# Altium footprint library slide_switches.PcbLib: 7 footprints
Each footprint in its own frame and in the unit in brackets; x right, y up, seen from the top. Pads: shape width x height; smd on the part's side, far side on the other; paste and mask are expansions set on the pad; w line width, h text height; cw(c..) or ccw(c..) is an arc to the next point about the centre after c.
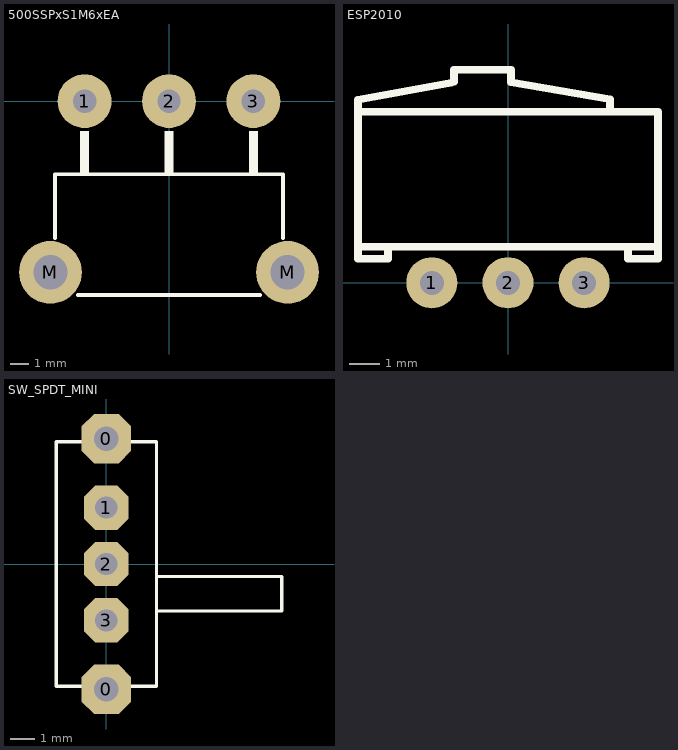
[diagram p0: the footprints below, top view; thin cyan lines are the x and y axes]

## 500SSPxS1M6xEA [mm] "E-Switch 500 Series Miniature Slide Switche (TME: Canal Electronic, SL19123)"
height 6.7
pads (5):
  round 3 hole 1.3: 1(-4.7,0) 2(0,0) 3(4.7,0)
  round 3.5 hole 1.9: M(-6.605,-9.53) M(6.605,-9.53)
Top Overlay:
  rectangle: -0.254,-4.064 0.254,-1.651
  rectangle: -4.954,-4.064 -4.446,-1.651
  rectangle: 4.446,-4.064 4.954,-1.651
  lines w0.2: -6.35,-7.62 -6.35,-4.064 6.35,-4.064 6.35,-7.62 ; -5.08,-10.795 5.08,-10.795
3D body: height 6.8, standoff -2.98, extent -6.785,-15.494 6.785,0.696

## ESP2010 [mm] "Sliding switch, right angle, SPDT"
height 2.5
pads (3):
  round 1.7 hole 0.8: 1(-2.54,0) 2(0,0) 3(2.54,0)
Top Overlay:
  lines w0.254: -4,1.2 -4,0.8 -5,0.8 -5,1.2 ; -1.894,6.665 -5,6.1 -5,5.7 ; -1.8,6.7 -1.8,7.1 0.1,7.1 0.1,7 0.1,6.7 ; 0.097,6.683 3.4,6.117 3.4,5.7 ; 4,1.2 4,0.8 5,0.8 5,1.2 ; -5,1.2 5,1.2 ; -5,1.2 -5,5.7 ; -5,5.7 5,5.7 5,1.2
3D body: height 1.25, standoff 0, extent 2.286,0 2.794,1.143
3D body: height 1.25, standoff 0, extent -0.254,0 0.254,1.143
3D body: height 2.5, standoff 0, extent -5,5.7 3.4,7.1
3D body: height 2.5, standoff 0, extent -5,0.8 5,5.7
3D body: height 1.25, standoff 0, extent -2.794,0 -2.286,1.143

## SLB12804 [mm] "Slide Switch, 1P2T, Vertical Actuator, Size= 14mmx6.2mm, h=9.5mm, 7 PIN THT"
height 9.5
3D body: height 9.65, standoff -2.6, extent -6.873,-4.116 7.127,2.084

## SLB12814 [mm] "Slide Switch, 2P2T, Vertical Actuator, Size=14mmx6.2mm, h=9.5mm, 3 PIN THT"
height 9.5
3D body: height 9.65, standoff -2.6, extent -7.889,-3.862 6.111,2.338

## SLB22804 [mm] "Slide Switch, 2P2T, Vertical Actuator, Size=14mmx6.2mm, h=9.5mm, 10 PIN THT"
height 9.5
3D body: height 9.65, standoff -2.6, extent -7,-2.973 7,3.227

## SLB22814 [mm] "Slide Switch, 2P2T, Vertical Actuator, Size=14mmx6.2mm, h=9.5mm, 6 PIN THT"
height 9.5
3D body: height 9.65, standoff -2.6, extent -6.492,-4.751 7.508,1.449

## SW_SPDT_MINI [mm]
pads (5):
  oct 2x2 hole 1: 0(0,-5.08) 0(0,5.08)
  oct 1.8x1.8 hole 0.9: 1(0,2.286) 2(0,0) 3(0,-2.286)
Top Overlay:
  lines w0.127: 2.032,-1.905 7.112,-1.905 7.112,-0.508 2.032,-0.508 ; -2.032,-4.953 2.032,-4.953 2.032,4.953 -2.032,4.953 -2.032,-4.953